# EAGLE library part EC45FLAT (library ProjectOnly6)
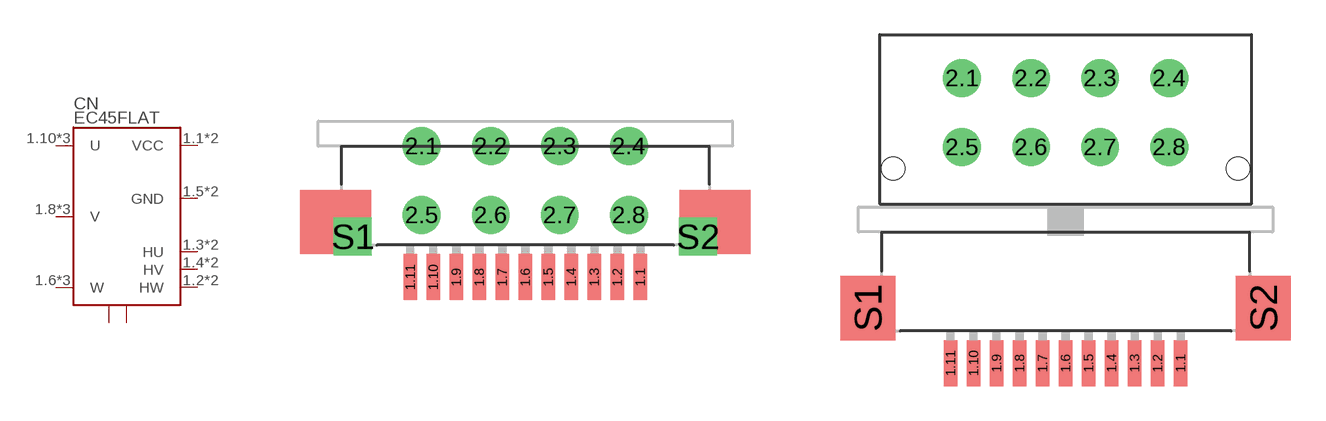
[diagram p5: symbol with the pads of MOTOR_COMPLEX1; footprints MOTOR_COMPLEX1, MOTOR_COMPLEX2]

Designator prefix CN

## EC45FLAT1  [MOTOR_COMPLEX1]
1.1  VCC
1.2  HW
1.3  HU
1.4  HV
1.5  GND
1.6  W
1.7  W
1.8  V
1.9  V
1.10  U
1.11  U
2.1  GND
2.2  HU
2.3  HV
2.4  HW
2.5  U
2.6  V
2.7  W
2.8  VCC
S1  S1
S2  S2

## EC45FLAT2  [MOTOR_COMPLEX2]
Pads as for MOTOR_COMPLEX1

## Footprint MOTOR_COMPLEX1 (pad centres in mm)
smd 0.6 x 2: 1.1 5,-2.4; 1.2 4,-2.4; 1.3 3,-2.4; 1.4 2,-2.4; 1.5 1,-2.4; 1.6 0,-2.4; 1.7 -1,-2.4; 1.8 -2,-2.4; 1.9 -3,-2.4; 1.10 -4,-2.4; 1.11 -5,-2.4
drill 1.1: 2.1 -4.5,3.3; 2.2 -1.5,3.3; 2.3 1.5,3.3; 2.4 4.5,3.3; 2.5 -4.5,0.3; 2.6 -1.5,0.3; 2.7 1.5,0.3; 2.8 4.5,0.3
drill 1.1 pad 1.5 square: S1 -7.5,-0.64; S2 7.5,-0.64

## Footprint MOTOR_COMPLEX2 (pad centres in mm)
smd 0.6 x 2: 1.1 5,-2.4; 1.2 4,-2.4; 1.3 3,-2.4; 1.4 2,-2.4; 1.5 1,-2.4; 1.6 0,-2.4; 1.7 -1,-2.4; 1.8 -2,-2.4; 1.9 -3,-2.4; 1.10 -4,-2.4; 1.11 -5,-2.4
drill 1.1 pad 1.5: 2.1 -4.5,10; 2.2 -1.5,10; 2.3 1.5,10; 2.4 4.5,10; 2.5 -4.5,7; 2.6 -1.5,7; 2.7 1.5,7; 2.8 4.5,7
smd 2.4 x 2.8: S1 -8.6,0; S2 8.6,0
hole 1 at -7.5,6.06
hole 1 at 7.5,6.06